# EAGLE library part SN74LS02NE4 (library ICs)
Logic Gates Quad 2-input Positive-NOR gates Source: Datasheet <http://www.futurlec.com/74LS/74LS02.shtml>
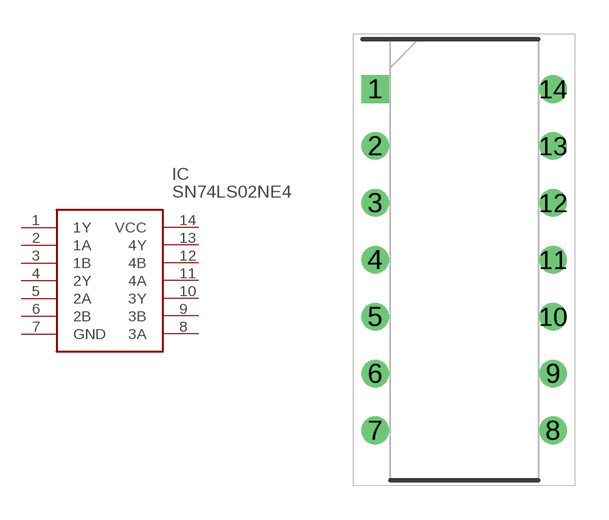
[diagram p12: symbol with the pads of DIP794W53P254L1930H508Q14N; footprint DIP794W53P254L1930H508Q14N]

Designator prefix IC

## SN74LS02NE4 (DESCRIPTION: Logic Gates Quad 2-input Positive-NOR gates; HEIGHT: 5.08mm; MANUFACTURER_NAME: Texas Instruments; MANUFACTURER_PART_NUMBER: SN74LS02NE4; MOUSER_PART_NUMBER: 595-SN74LS02NE4; MOUSER_PRICE-STOCK: https://www.mouser.com/Search/Refine.aspx?Keyword=595-SN74LS02NE4)  [DIP794W53P254L1930H508Q14N]
1  1Y
2  1A  in
3  1B  in
4  2Y  out
5  2A  in
6  2B  in
7  GND  pwr
8  3A  in
9  3B  in
10  3Y  out
11  4A  in
12  4B  in
13  4Y  out
14  VCC  pwr

## Footprint DIP794W53P254L1930H508Q14N (pad centres in mm)
SN74LS04N
drill 0.73 pad 1.13 square: 1 -3.97,7.62
drill 0.73 pad 1.13: 2 -3.97,5.08; 3 -3.97,2.54; 4 -3.97,0; 5 -3.97,-2.54; 6 -3.97,-5.08; 7 -3.97,-7.62; 8 3.97,-7.62; 9 3.97,-5.08; 10 3.97,-2.54; 11 3.97,0; 12 3.97,2.54; 13 3.97,5.08; 14 3.97,7.62